# Altium schematic symbol library ICs-PowerMonitors.SchLib: 3 symbols
Pins are listed as number, name and electrical type; pins without a type are passive.

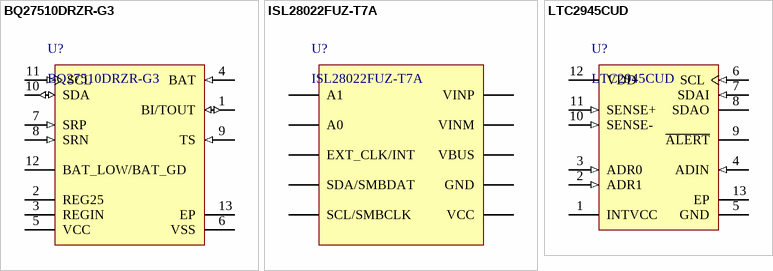
[diagram p0: symbols BQ27510DRZR-G3 to LTC2945CUD]

## BQ27510DRZR-G3
designator U?
Battery Management System-Side Impedance Track Fuel Gauge; Manufacturer: Texas Instruments; PartNumber: BQ27510DRZR-G3; PackageReference: VSON-12; Mounting Technology: Surface Mount
footprint VSON-12 (SON, 12-Leads, Body 4x2.5mm, Pitch 0.4mm, Thermal Pad 1.95x2.45mm, TI Recommended)
pins: 1 BI/TOUT (io) "Battery-insertion detection input. Power pin for pack thermistor network. Thermistor-multiplexer control pin. Open-drain I/O. Use with pull-up resistor >1M ohm (1.8 M ohm typical).", 2 REG25 (power) "2.5 V output voltage of the internal integrated LDO.", 3 REGIN (power) "The input voltage for the internal integrated LDO.", 4 BAT (in) "Cell voltage measurement input. ADC input.", 5 VCC (power) "Processor power input. Decouple with 0.1uF ceramic capacitor minimum.", 6 VSS (power) "Device ground", 7 SRP (in) "Analog input pin connected to the internal coulomb counter where SRP is nearest the PACK-connection. Connect to 5-M ohm  to 20-M ohm sense resistor.", 8 SRN (in) "Analog input pin connected to the internal coulomb counter where SRN is nearest the VSS-connection. Connect to a 5-M ohm to 20-M ohm sense resistor.", 9 TS (in) "Pack thermistor voltage sense (use 103AT-type thermistor). ADC input", 10 SDA (io) "Slave I2C serial communications data line for communication with system (Master). Open-drain I/O. Use with 10-K ohm pull-up resistor (typical).", 11 SCL (in) "Slave I2C serial communications clock input line for communication with system (Master). Use with 10-K ohm pull-up resistor (typical).", 12 BAT_LOW/BAT_GD (oc) "Battery-good or Battery-low output indicator. Desired function polarity selected through the Operation Configuration register. Open-drain output", 13 EP "Exposed pad."

## ISL28022FUZ-T7A
designator U?
Manufacturer: Intersil; PartNumber: ISL28022FUZ-T7A; Mounting Technology: Surface Mount; PackageReference: MSOP-10
footprint MSOP-10 (TSSOP, 10-Leads, Body 3.00x3.00mm, Pitch 0.50mm, IPC Medium Density)
pins: 1 A1, 2 A0, 3 EXT_CLK/INT, 4 SDA/SMBDAT, 5 SCL/SMBCLK, 6 VCC (power), 7 GND (power), 8 VBUS, 9 VINM, 10 VINP

## LTC2945CUD
designator U?
Power Supply Controller General Purpose 12-QFN (3x3); Manufacturer: Linear Technology; PartNumber: LTC2945CUD#PBF; Mounting Technology: Surface Mount; PackageReference: QFN-12
footprint QFN-12 (QFN, 12-Leads, Body 3.1x3.1mm, Pitch 0.5mm, Thermal Pad 1.65x1.65mm, IPC High Density)
pins: 1 INTVCC (power) "Internal Low Voltage Supply Input/Output. This pin is used to power internal circuitry. It can be configured as a direct input for a low voltage supply, as linear regulator from higher voltage supply connected to VDD, or as (See Datasheet)", 2 ADR1 (in) "I2C Device Address Inputs. Connecting these pins to INTVCC, GND or leaving the pins open configures one of nine possible addresses. See Table 1 in Applications Information section for details.", 3 ADR0 (in) "I2C Device Address Inputs. Connecting these pins to INTVCC, GND or leaving the pins open configures one of nine possible addresses. See Table 1 in Applications Information section for details.", 4 ADIN (in) "ADC Input. The onboard ADC measures voltages between 0V and 2.048V. Tie to ground if unused.", 5 GND (power) "Device Ground.", 6 SCL (in) "I2C Bus Clock Input. Data at the SDAI pin is shifted in or out on rising edges of SCL. This pin is driven by an open-collector output from a master controller. An external pull-up resistor or current source is required and (See Datasheet)", 7 SDAI (in) "I2C Bus Data Input. Used for shifting in address, command or data bits. This pin is driven by an opencollector output from a master controller. An external pull-up resistor or current source is required and can be placed (See Datasheet)", 8 SDAO (oc) "I2C Bus Data Output. Open-drain output used for sending data back to the master controller or acknowledging a write operation. An external pull-up resistor or current source is required.", 9 ~{ALERT} (oc) "Fault Alert Output. Open drain logic output that is pulled to ground after an ADC conversion resulted in a fault to alert the host controller. A fault alert is enabled by setting the corresponding bit in the ALERT register (See Datasheet)", 10 SENSE- (in) "Current Sense Input. Connect an external sense resistor between SENSE+ and SENSE-. The differential voltage between SENSE+ and SENSE- is monitored by the onboard ADC with a full-scale sense voltage of 102.4mV.", 11 SENSE+ (in) "Supply Voltage and Current Sense Input. Used as a supply and current sense input for the internal current sense amplifier. The voltage at this pin is monitored by the onboard ADC with a full-scale input range of 102.4V. See (See Datasheet)", 12 VDD (power) "High Voltage Supply Input. This pin powers an internal series regulator with input voltages ranging from 4V to 80V and produces 5V at INTVCC when the input voltage is above 7V. Connect a bypass capacitor between 0.1uF and (See Datasheet)", 13 EP (power) "Exposed pad may be left open or connected to device ground. For best thermal performance, connect to a large PCB area."